# Altium schematic symbol library AnserEMT.SchLib: 26 symbols
Pins are listed as number, name and electrical type; pins without a type are passive.

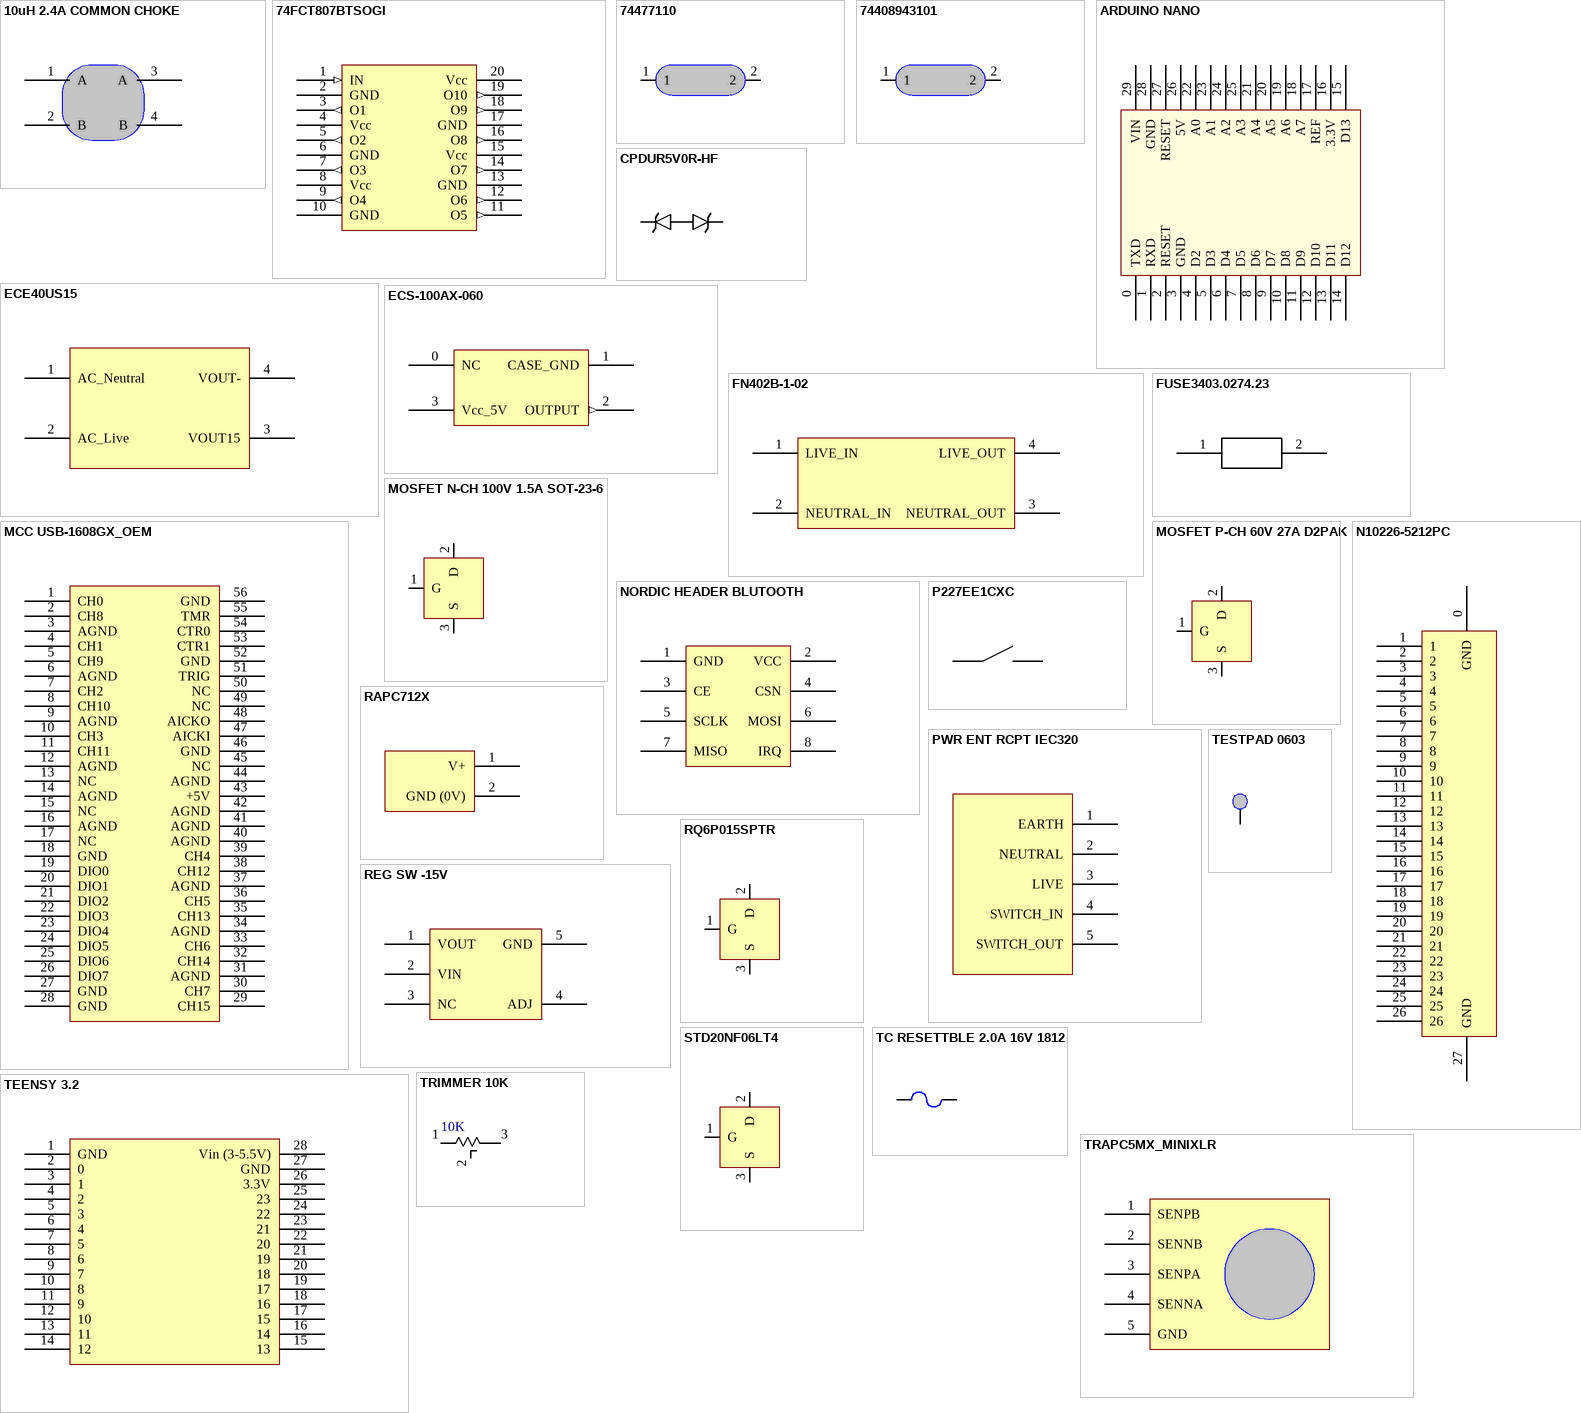
[diagram p0: symbols 10uH 2.4A COMMON CHOKE to TRIMMER 10K]

## 10uH 2.4A COMMON CHOKE
designator CH?  value 1K  Supplier 1: Digi-Key  Supplier Part Number 1: 732-2966-1-ND  Stock 1: 0  Pricing 1: 1=3.82, 10=3.702, 50=3.3436, 100=3.2242, 250=2.9854 (EUR)
CMC 10UH 2.25A 2LN 9 KOHM SMD; Manufacturer: Wurth Electronics Inc.; Manufacturer Part Number: 744282100; Filter Type: Power, Signal Line; Number of Lines: 2; Impedance @ Frequency: 9 kOhm @ 100kHz; Inductance @ Frequency: 10µH @ 100kHz; DC Resistance (DCR) (Max): 50 mOhm; Voltage Rating - DC: 80V; Published: 8-Jun-2000; LatestRevisionDate: 29-May-2009; LatestRevisionNote: IPC-7351 Footprint Added.; PackageReference: J1-0603; Publisher: Altium Limited; PackageDescription: Chip Resistor; RoHS: RoHS Compliant; Category: Filters; Packaging: Cut Tape (CT); Part Status: Active; Current Rating (Max): 2.25A; Voltage Rating - AC: -; Operating Temperature: -40°C ~ 125°C; Ratings: -; Approvals: -; Features: -; Mounting Type: Surface Mount; Size / Dimension: 0.492" L x 0.492" W (12.50mm x 12.50mm); Height (Max): 0.256" (6.50mm); Package / Case: Horizontal, 4 PC Pad; ComponentLink1URL: http://katalog.we-online.de/pbs/datasheet/744282100.pdf; ComponentLink1Description: http://katalog.we-online.de/pbs/datasheet/744282100.pdf
footprint 10uH 2.4A COMMON CHOKE
pins: 1 A, 2 B, 3 A, 4 B

## 74FCT807BTSOGI
designator U?
IC CLK BUFFER 1:10 100MHZ 20SOIC; Manufacturer: IDT, Integrated Device Technology Inc; Number of Circuits: 1; Differential - Input:Output: No/No; Input: TTL; Voltage - Supply: 4.75 V ~ 5.25 V; Published: 8-Jun-2000; LatestRevisionDate: 29-May-2009; LatestRevisionNote: IPC-7351 Footprint Added.; PackageReference: J1-0603; Publisher: Altium Limited; PackageDescription: Chip Resistor; Manufacturer Part Number: 74FCT807BTSOGI; RoHS: RoHS Compliant; Category: Integrated Circuits (ICs); Packaging: Tube; Part Status: Active; Type: Fanout Buffer (Distribution); Ratio - Input:Output: 1:10; Output: TTL; Frequency - Max: 100MHz; Operating Temperature: -40°C ~ 85°C; Mounting Type: Surface Mount; Package / Case: 20-SOIC (0.295", 7.50mm Width); Supplier Device Package: 20-SOIC; ComponentLink1URL: http://www.idt.com/document/74fct807t-datasheet; ComponentLink1Description: http://www.idt.com/document/74fct807t-datasheet; Supplier 1: Digi-Key; Supplier Part Number 1: 800-3327-5-ND; Stock 1: 281; Pricing 1: 1=3.79, 10=3.384, 25=3.0456, 100=2.7751, 250=2.5044, 500=2.24718, 1000=1.89521, 2500=1.80045, 5000=1.73276 (EUR)
footprint CLOCK DRIVER 10:1 (10 to 1 Clock Driver)
pins: 1 IN (in), 2 GND (power), 3 O1 (out), 4 Vcc (power), 5 O2 (out), 6 GND (power), 7 O3 (out), 8 Vcc (power), 9 O4 (out), 10 GND (power), 11 O5 (out), 12 O6 (out), 13 GND (power), 14 O7 (out), 15 Vcc (power), 16 O8 (out), 17 GND (power), 18 O9 (out), 19 O10 (out), 20 Vcc (power)

## 74477110
designator CH?, comment FIXED IND 10UH 5A 25 MOHM SMD  value 1K  Supplier 1: Digi-Key  Supplier Part Number 1: 732-1208-1-ND  Stock 1: 3817  Pricing 1: 1=2.82, 10=2.47, 50=2.2934, 100=2.2052, 250=2.11692 (EUR)
Manufacturer: Wurth Electronics Inc.; Manufacturer Part Number: 74477110; Material - Core: Ferrite; Inductance: 10µH; Tolerance: ±20%; Current - Saturation: 5.5A; Shielding: Shielded; DC Resistance (DCR): 25 mOhm Max; Frequency - Self Resonant: 21.5MHz; Frequency - Test: 1kHz; Published: 8-Jun-2000; LatestRevisionDate: 29-May-2009; LatestRevisionNote: IPC-7351 Footprint Added.; PackageReference: J1-0603; Publisher: Altium Limited; PackageDescription: Chip Resistor; RoHS: RoHS Compliant; Category: Inductors, Coils, Chokes; Packaging: Cut Tape (CT); Part Status: Active; Type: Wirewound; Current Rating: 5A; Q @ Freq: -; Ratings: -; Operating Temperature: -40°C ~ 125°C; Mounting Type: Surface Mount; Package / Case: Nonstandard; Supplier Device Package: -; Size / Dimension: 0.472" L x 0.472" W (12.00mm x 12.00mm); Height - Seated (Max): 0.236" (6.00mm); ComponentLink1URL: http://katalog.we-online.de/pbs/datasheet/74477110.pdf; ComponentLink1Description: http://katalog.we-online.de/pbs/datasheet/74477110.pdf
footprint FIXED IND 10UH 5A 190 MOHM SMD (FIXED IND 10UH 1A 190 MOHM SMD)
pins: 1, 2

## 74408943101
designator L?, comment FIXED IND 100UH 520MA 850 MOHM  value 1K  Supplier 1: Digi-Key  Supplier Part Number 1: 732-3038-2-ND  Stock 1: 9500  Pricing 1: 500=1.84552 (EUR)
Manufacturer: Wurth Electronics Inc.; Manufacturer Part Number: 74408943101; Type: Wirewound; Material - Core: Ferrite; Inductance: 100µH; Tolerance: ±20%; Current - Saturation: 680mA; Shielding: Shielded; DC Resistance (DCR): 850 mOhm Max; Frequency - Self Resonant: 7.8MHz; Frequency - Test: 100kHz; Published: 8-Jun-2000; LatestRevisionDate: 29-May-2009; LatestRevisionNote: IPC-7351 Footprint Added.; PackageReference: J1-0603; Publisher: Altium Limited; PackageDescription: Chip Resistor; RoHS: RoHS Compliant; Category: Inductors, Coils, Chokes; Packaging: Tape & Reel (TR); Part Status: Active; Current Rating: 520mA; Q @ Freq: -; Ratings: -; Operating Temperature: -40°C ~ 125°C; Mounting Type: Surface Mount; Package / Case: Nonstandard; Supplier Device Package: -; Size / Dimension: 0.189" L x 0.189" W (4.80mm x 4.80mm); Height - Seated (Max): 0.161" (4.10mm); ComponentLink1URL: http://katalog.we-online.de/pbs/datasheet/74408943101.pdf; ComponentLink1Description: http://katalog.we-online.de/pbs/datasheet/74408943101.pdf
footprint FIXED IND 100UH 520MA 850 MOHM
pins: 1, 2

## ARDUINO NANO
designator MCU?, comment Supplier 1: Digi-Key  Supplier Part Number 1: 1050-1001-ND  Stock 1: 453  Pricing 1: 1=20.06 (EUR)  (hidden comment: Arduino nano MCU)
ARDUINO NANO BOARD; Manufacturer Part Number: A000005; Board Type: Evaluation Platform; Core Processor: AVR; For Use With/Related Products: ATmega328; Contents: Board(s); Published: 8-Jun-2000; LatestRevisionDate: 29-May-2009; LatestRevisionNote: IPC-7351 Footprint Added.; PackageReference: J1-0603; Publisher: Altium Limited; PackageDescription: Chip Resistor; Manufacturer: Arduino; RoHS: RoHS Compliant; Category: Development Boards, Kits, Programmers; Part Status: Active; Type: MCU 8-Bit; Operating System: -; Platform: Arduino Nano; Mounting Type: Fixed; ComponentLink1URL: http://media.digikey.com/pdf/Data%20Sheets/Arduino%20PDFs/A000005.pdf; ComponentLink1Description: http://media.digikey.com/pdf/Data%20Sheets/Arduino%20PDFs/A000005.pdf
footprint Arduino Nano (arduino nano)
pins: 0 TXD, 1 RXD, 2 RESET, 3 GND, 4 D2, 5 D3, 6 D4, 7 D5, 8 D6, 9 D7, 10 D8, 11 D9, 12 D10, 13 D11, 14 D12, 15 D13, 16 3.3V, 17 REF, 18 A7, 19 A6, 20 A5, 21 A4, 22 A0, 23 A1, 24 A2, 25 A3, 26 5V, 27 RESET, 28 GND, 29 VIN

## CPDUR5V0R-HF
designator D?, comment TVS Diode 13V  value 1K  Supplier 1: Digi-Key  Supplier Part Number 1: 641-1526-1-ND  Stock 1: 6593  Pricing 1: 1=0.38, 10=0.271, 25=0.2112, 100=0.1597, 250=0.113, 500=0.09044, 1000=0.06933 (EUR)
TVS DIODE 5VWM 13VC SOD-523F; Manufacturer: Comchip Technology; Manufacturer Part Number: CPDUR5V0R-HF; Type: Zener; Voltage - Reverse Standoff (Typ): 5V (Max); Voltage - Breakdown (Min): 5.6V; Current - Peak Pulse (10/1000µs): 12A (8/20µs); Power Line Protection: No; Capacitance @ Frequency: 20pF @ 1MHz; Published: 8-Jun-2000; LatestRevisionDate: 29-May-2009; LatestRevisionNote: IPC-7351 Footprint Added.; PackageReference: J1-0603; Publisher: Altium Limited; PackageDescription: Chip Resistor; RoHS: RoHS Compliant; Category: Circuit Protection; Packaging: Cut Tape (CT); Part Status: Active; Voltage - Clamping (Max) @ Ipp: 13V; Power - Peak Pulse: -; Applications: General Purpose; Operating Temperature: -40°C ~ 150°C (TJ); Mounting Type: Surface Mount; Package / Case: SC-79, SOD-523; Supplier Device Package: 0603/SOD-523F; ComponentLink1URL: http://www.comchiptech.com/cms/UserFiles/CPDUR5V0R-HF-Rev%20B339379.pdf; ComponentLink1Description: http://www.comchiptech.com/cms/UserFiles/CPDUR5V0R-HF-Rev%20B339379.pdf
footprint CPDUR5V0R-HF (TVS Diode 13V)
pins: 1, 2

## ECE40US15
designator PWR?, comment AC-DC
AC/DC CONVERTER 15V 40W; Manufacturer: XP Power; Manufacturer Part Number: ECE40US15; Number of Outputs: 1; Voltage - Input: 85 ~ 264 VAC; Current - Output (Max): 2.67A; Power Supply Type: Enclosed; Efficiency: 84%; Line Regulation: ±0.5%; Load Regulation: ±1%; Approvals: CSA, cUL, EN, UL; Value: 1K; Published: 8-Jun-2000; LatestRevisionDate: 29-May-2009; LatestRevisionNote: IPC-7351 Footprint Added.; PackageReference: J1-0603; Publisher: Altium Limited; PackageDescription: Chip Resistor; RoHS: RoHS Compliant; Category: Power Supplies - Board Mount; Part Status: Active; Voltage - Output 1: 15V; Voltage - Output 2: -; Voltage - Output 3: -; Voltage - Output 4: -; Power (Watts): 40W; Applications: ITE (Commercial); Features: OVP, SCP; Operating Temperature: -25°C ~ 70°C; Mounting Type: Through Hole; Size / Dimension: 3.10" L x 1.50" W x 1.10" H (78.7mm x 38.1mm x 27.9mm); Weight: 0.331 lb (150.14g); ComponentLink1URL: http://www.xppower.com/Portals/0/pdfs/SF_ECE20-40.pdf; ComponentLink1Description: http://www.xppower.com/Portals/0/pdfs/SF_ECE20-40.pdf; Supplier 1: Digi-Key; Supplier Part Number 1: 1470-1140-ND; Stock 1: 20; Pricing 1: 1=55.7, 5=54.026, 10=52.354, 25=50.1268, 100=46.7848 (EUR)
footprint ECE40US15 (AC/DC 15V 40W Converter)
pins: 1 AC_Neutral, 2 AC_Live, 3 VOUT15, 4 VOUT-

## ECS-100AX-060
designator X?
OSC XO 6.000MHZ TTL PC PIN; Manufacturer: ECS Inc.; Frequency: 6MHz; Voltage - Supply: 5V; Frequency Stability: ±100ppm; Current - Supply (Max): 15mA; Value: 6Mhz; Published: 8-Jun-2000; LatestRevisionDate: 29-May-2009; LatestRevisionNote: IPC-7351 Footprint Added.; PackageReference: J1-0603; Publisher: Altium Limited; PackageDescription: Chip Resistor; Manufacturer Part Number: ECS-100AX-060; RoHS: RoHS Compliant; Category: Crystals, Oscillators, Resonators; Packaging: Bulk; Part Status: Active; Type: XO (Standard); Function: -; Output: TTL; Operating Temperature: 0°C ~ 70°C; Ratings: -; Mounting Type: Through Hole; Package / Case: 14-DIP, 4 Leads (Full Size, Metal Can); Size / Dimension: 0.821" L x 0.520" W (20.86mm x 13.20mm); Height - Seated (Max): 0.200" (5.08mm); Current - Supply (Disable) (Max): -; ComponentLink1URL: http://www.ecsxtal.com/store/pdf/ecs-100x.pdf; ComponentLink1Description: http://www.ecsxtal.com/store/pdf/ecs-100x.pdf; Supplier 1: Digi-Key; Supplier Part Number 1: X943-ND; Stock 1: 1021; Pricing 1: 1=2.21, 10=2.157, 50=2.054, 100=1.7972, 500=1.74584, 1000=1.48909, 2500=1.3864, 5000=1.33505 (EUR)
footprint ECS-100AX-060
pins: 0 NC, 1 CASE_GND (power), 2 OUTPUT (out), 3 Vcc_5V (power)

## FN402B-1-02
designator FIL?, comment Line Filter 250V
LINE FILTER 250VAC 1A TH; Manufacturer: Schaffner EMC Inc.; Manufacturer Part Number: FN402B-1-02; Filter Type: Single Phase; Configuration: Single Stage; Frequency - Operating: DC ~ 400Hz; Approvals: CSA, ENEC, UR; Inductance: 10mH; Value: 1K; Published: 8-Jun-2000; LatestRevisionDate: 29-May-2009; LatestRevisionNote: IPC-7351 Footprint Added.; PackageReference: J1-0603; Publisher: Altium Limited; PackageDescription: Chip Resistor; RoHS: RoHS Compliant; Category: Filters; Part Status: Active; Voltage - Rated DC: -; Voltage - Rated AC: 250V; Voltage - Rated AC (Phase to Ground/Neutral): -; Voltage - Rated AC (Phase to Phase): -; Current: 1A; Applications: General Purpose; Operating Temperature: -25°C ~ 100°C; Mounting Type: Through Hole; Termination Style: PC Pins; ComponentLink1URL: http://www.schaffner.com/fileadmin/media/products/pim/FN%20402.pdf; ComponentLink1Description: http://www.schaffner.com/fileadmin/media/products/pim/FN%20402.pdf; Supplier 1: Digi-Key; Supplier Part Number 1: 817-1978-ND; Stock 1: 160; Pricing 1: 1=10.2, 10=8.684, 25=6.7396, 50=6.4184, 100=6.0408, 250=5.47452, 500=5.28574, 1000=5.09697 (EUR)
footprint FN402B-1-02 (LINE FILTER 250V)
pins: 1 LIVE_IN, 2 NEUTRAL_IN, 3 NEUTRAL_OUT, 4 LIVE_OUT

## FUSE3403.0274.23
designator F?, comment value 1K  Supplier 1: Digi-Key  Supplier Part Number 1: 486-3065-1-ND  Stock 1: 2,317  Pricing 1: 1=1.59, 50=1.144, 100=1.0803, 250=1.0168, 500=0.95326 (EUR)  (hidden comment: FUSE 1A 277AC/250DC T-LAG SMD)
Manufacturer: Schurter Inc.; Manufacturer Part Number: 3403.0272.23; Fuse Type: Board Mount (Cartridge Style Excluded); Voltage Rating - AC: 277V; Voltage Rating - DC: 250V; Response Time: Slow; Breaking Capacity @ Rated Voltage: 1.5kA; Melting I²t: 1.1; Approvals: cURus, VDE; Published: 8-Jun-2000; LatestRevisionDate: 29-May-2009; LatestRevisionNote: IPC-7351 Footprint Added.; PackageReference: J1-0603; Publisher: Altium Limited; PackageDescription: Chip Resistor; RoHS: RoHS Compliant; Category: Circuit Protection; Packaging: Cut Tape (CT); Part Status: Active; Current Rating: 1A; Package / Case: 2-SMD, Square End Block; Mounting Type: Surface Mount; Operating Temperature: -55°C ~ 125°C; Color: -; Size / Dimension: 0.606" L x 0.211" W x 0.211" H (15.40mm x 5.35mm x 5.35mm); DC Cold Resistance: -; ComponentLink1URL: http://www.schurterinc.com/bundles/snceschurter/epim/_ProdPool_/newDS/en/typ_UMT-H.pdf; ComponentLink1Description: http://www.schurterinc.com/bundles/snceschurter/epim/_ProdPool_/newDS/en/typ_UMT-H.pdf
footprint FUSE3403.0272.23 (FUSE 630MA 277AC/250DC T-LAG SMD)
pins: 1, 2

## MCC USB-1608GX_OEM
designator DAQ?, comment MCC DAQ 1608GX  value 1K
MCC USB-1608GX_OEM; Published: 8-Jun-2000; LatestRevisionDate: 29-May-2009; LatestRevisionNote: IPC-7351 Footprint Added.; PackageReference: J1-0603; Publisher: Altium Limited; PackageDescription: Chip Resistor
footprint DAQ_MCC
pins: 1 CH0, 2 CH8, 3 AGND, 4 CH1, 5 CH9, 6 AGND, 7 CH2, 8 CH10, 9 AGND, 10 CH3, 11 CH11, 12 AGND, 13 NC, 14 AGND, 15 NC, 16 AGND, 17 NC, 18 GND, 19 DIO0, 20 DIO1, 21 DIO2, 22 DIO3, 23 DIO4, 24 DIO5, 25 DIO6, 26 DIO7, 27 GND, 28 GND, 29 CH15, 30 CH7, 31 AGND, 32 CH14, 33 CH6, 34 AGND, 35 CH13, 36 CH5, 37 AGND, 38 CH12, 39 CH4, 40 AGND, 41 AGND, 42 AGND, 43 +5V, 44 AGND, 45 NC, 46 GND, 47 AICKI, 48 AICKO, 49 NC, 50 NC, 51 TRIG, 52 GND, 53 CTR1, 54 CTR0, 55 TMR, 56 GND

## MOSFET N-CH 100V 1.5A SOT-23-6
designator M?, comment FET  value 1K  Supplier 1: Digi-Key  Supplier Part Number 1: ZXMN10A08E6CT-ND  Stock 1: 19787  Pricing 1: 1=0.57, 10=0.482, 100=0.3602, 500=0.28302, 1000=0.21869 (EUR)
MOSFET N-CH 100V 1.5A SOT-23-6; Manufacturer: Diodes Incorporated; Manufacturer Part Number: ZXMN10A08E6TA; FET Type: N-Channel; Current - Continuous Drain (Id) @ 25°C: 1.5A (Ta); Drive Voltage (Max Rds On,  Min Rds On): 6V, 10V; Vgs(th) (Max) @ Id: 4V @ 250µA; Gate Charge (Qg) (Max) @ Vgs: 7.7nC @ 10V; Input Capacitance (Ciss) (Max) @ Vds: 405pF @ 50V; Vgs (Max): ±20V; Power Dissipation (Max): 1.1W (Ta); Rds On (Max) @ Id, Vgs: 250 mOhm @ 3.2A, 10V; Published: 8-Jun-2000; LatestRevisionDate: 29-May-2009; LatestRevisionNote: IPC-7351 Footprint Added.; PackageReference: J1-0603; Publisher: Altium Limited; PackageDescription: Chip Resistor; RoHS: RoHS Compliant; Category: Discrete Semiconductor Products; Packaging: Cut Tape (CT); Part Status: Active; Technology: MOSFET (Metal Oxide); Drain to Source Voltage (Vdss): 100V; FET Feature: -; Operating Temperature: -55°C ~ 150°C (TJ); Mounting Type: Surface Mount; Supplier Device Package: SOT-26; Package / Case: SOT-23-6; ComponentLink1URL: http://www.diodes.com/assets/Datasheets/ZXMN10A08E6.pdf; ComponentLink1Description: http://www.diodes.com/assets/Datasheets/ZXMN10A08E6.pdf
footprint MOSFETG 100V (SOT23, 6-Leads, Body 2.90x2.85mm, Pitch 0.95mm, IPC Medium Density)
pins: 1 G, 2 D, 3 S

## MOSFET P-CH 60V 27A D2PAK
designator M?  value 1K  Supplier 1: Digi-Key  Supplier Part Number 1: FQB27P06TMCT-ND  Stock 1: 4647  Pricing 1: 1=1.58, 10=1.406, 100=1.0959 (EUR)
Manufacturer: Fairchild/ON Semiconductor; Manufacturer Part Number: FQB27P06TM; FET Type: P-Channel; Current - Continuous Drain (Id) @ 25°C: 27A (Tc); Drive Voltage (Max Rds On,  Min Rds On): 10V; Vgs(th) (Max) @ Id: 4V @ 250µA; Gate Charge (Qg) (Max) @ Vgs: 43nC @ 10V; Input Capacitance (Ciss) (Max) @ Vds: 1400pF @ 25V; Vgs (Max): ±25V; Power Dissipation (Max): 3.75W (Ta), 120W (Tc); Rds On (Max) @ Id, Vgs: 70 mOhm @ 13.5A, 10V; Published: 8-Jun-2000; LatestRevisionDate: 29-May-2009; LatestRevisionNote: IPC-7351 Footprint Added.; PackageReference: J1-0603; Publisher: Altium Limited; PackageDescription: Chip Resistor; RoHS: RoHS Compliant; Description: MOSFET P-CH 60V 27A D2PAK; Category: Discrete Semiconductor Products; Packaging: Cut Tape (CT); Part Status: Active; Technology: MOSFET (Metal Oxide); Drain to Source Voltage (Vdss): 60V; FET Feature: -; Operating Temperature: -55°C ~ 175°C (TJ); Mounting Type: Surface Mount; Supplier Device Package: D²PAK (TO-263AB); Package / Case: TO-263-3, D²Pak (2 Leads + Tab), TO-263AB; ComponentLink1URL: https://www.fairchildsemi.com/datasheets/FQ/FQB27P06.pdf; ComponentLink1Description: https://www.fairchildsemi.com/datasheets/FQ/FQB27P06.pdf
footprint DPAK228P1525X483-3N (D2-PAK, 3-Pads, Body 7.93x8.69mm (max), IPC Medium Density)
pins: 1 G, 2 D, 3 S

## N10226-5212PC
designator CONN?
CONN MINI-D 26POS R/A RECPT; Manufacturer: 3M; Connector Style: Outer Shroud Contacts; Connector Type: Receptacle; Number of Positions: 26; Flange Feature: Insert, Threaded (M2.5); Latchblocks; Published: 8-Jun-2000; LatestRevisionDate: 29-May-2009; LatestRevisionNote: IPC-7351 Footprint Added.; PackageReference: J1-0603; Publisher: Altium Limited; PackageDescription: Chip Resistor; Manufacturer Part Number: N10226-5212PC; RoHS: RoHS Compliant; Category: Connectors, Interconnects; Part Status: Active; Number of Rows: 2; Mounting Type: Panel Mount, Through Hole, Right Angle; Termination: Solder; Type: -; Features: Shielded; Contact Finish: Gold; Contact Finish Thickness: 30µin (0.76µm); ComponentLink1URL: http://multimedia.3m.com/mws/media/22325O/3mtm-mini-d-ribbonmdr-050-bm-thru-hole-ra-shielded-ts0531.pdf; ComponentLink1Description: http://multimedia.3m.com/mws/media/22325O/3mtm-mini-d-ribbonmdr-050-bm-thru-hole-ra-shielded-ts0531.pdf; Supplier 1: Digi-Key; Supplier Part Number 1: N10226-5212PC-ND; Stock 1: 782; Pricing 1: 1=7.63, 10=7.291, 25=6.6284, 50=6.2972, 100=6.1314, 250=5.4686, 500=5.13714, 1000=4.54056, 2500=4.30856 (EUR)
footprint CONN MINI-D 26POS R/A RECPT
pins: 0 GND, 1, 2, 3, 4, 5, 6, 7, 8, 9, 10, 11, 12, 13, 14, 15, 16, 17, 18, 19, 20, 21, 22, 23, 24, 25, 26, 27 GND

## NORDIC HEADER BLUTOOTH
designator BLU?
BLUTOOTH MODULE; Value: 1K; Published: 8-Jun-2000; LatestRevisionDate: 29-May-2009; LatestRevisionNote: IPC-7351 Footprint Added.; PackageReference: J1-0603; Publisher: Altium Limited; PackageDescription: Chip Resistor
footprint NORDIC BLUTOOTH HEADER
pins: 1 GND, 2 VCC, 3 CE, 4 CSN, 5 SCLK, 6 MOSI, 7 MISO, 8 IRQ

## P227EE1CXC
designator SW?
SWITCH PUSHBUTTON DPST 7A 125V; Manufacturer: E-Switch; Switch Function: Off-On; Current Rating: 7A (AC); Actuator Type: Plunger for Cap; Color - Actuator/Cap: Blue; Electrical Life: 6,000 Cycles; Value: 1K; Published: 8-Jun-2000; LatestRevisionDate: 29-May-2009; LatestRevisionNote: IPC-7351 Footprint Added.; PackageReference: J1-0603; Publisher: Altium Limited; PackageDescription: Chip Resistor; Manufacturer Part Number: P227EE1CXC; RoHS: RoHS Compliant; Category: Switches; Packaging: Bulk; Part Status: Active; Type: Standard; Circuit: DPST; Voltage Rating - AC: 125V; Voltage Rating - DC: -; Illumination Type, Color: -; Illumination Voltage (Nominal): -; Mounting Type: Through Hole, Right Angle; Termination Style: PC Pin; Ingress Protection: -; Features: -; Panel Cutout Dimensions: -; Operating Temperature: -20°C ~ 85°C; Mechanical Life: -; ComponentLink1URL: http://media.digikey.com/pdf/Data%20Sheets/E-Switch%20PDFs/P227EE1CXC_Dwg.pdf; ComponentLink1Description: http://media.digikey.com/pdf/Data%20Sheets/E-Switch%20PDFs/P227EE1CXC_Dwg.pdf; Supplier 1: Digi-Key; Supplier Part Number 1: EG1026-ND; Stock 1: 1567; Pricing 1: 1=2.23, 10=2.076, 25=1.9768, 50=1.878, 100=1.8285, 250=1.77908, 500=1.68022, 1000=1.58139, 5000=1.3343 (EUR)
footprint P227EE1CXC (DPST SWITCH 7A)
pins: 1, 2

## PWR ENT RCPT IEC320
designator CONN?, comment PWR ENT RCPT  value 1K  RoHS: RoHS Compliant  Supplier 1: Mouser  Supplier Part Number 1: 693-CMF3113212  Stock 1: 50  Pricing 1: 9.04
PWR ENT RCPT IEC320-C14 PNL SLDR; Manufacturer: Qualtek; Manufacturer Part Number: 703W-00/52; Connector Type: Receptacle, Male Blades; Current - IEC: 10A; Voltage - IEC: 250VAC; Current - UL: 15A; Filter Type: Unfiltered - Commercial; Fuse: No; Number of Positions: 3; Panel Thickness: 0.120" (3.00mm); Approvals: CSA, UL, VDE; Published: 8-Jun-2000; LatestRevisionDate: 29-May-2009; LatestRevisionNote: IPC-7351 Footprint Added.; PackageReference: J1-0603; Publisher: Altium Limited; PackageDescription: Chip Resistor; Category: Connectors, Interconnects; Packaging: Bulk; Part Status: Active; Connector Style: IEC 320-C14; Voltage - UL: 250VAC; Mounting Type: Panel Mount, Flange; Through Hole, Right Angle; Termination: Solder; Switch Features: -; Features: Terminating Cover; Fuse Holder, Drawer: -; Panel Cutout Dimensions: Rectangular - 31.30mm x 23.30mm; Material Flammability Rating: -; Ingress Protection: -; ComponentLink1URL: http://www.qualtekusa.com/Catalog/AC_Receptacles/pdfs/703w0052.pdf; ComponentLink1Description: http://www.qualtekusa.com/Catalog/AC_Receptacles/pdfs/703w0052.pdf
footprint PWR ENT RCPT IEC320
pins: 1 EARTH, 2 NEUTRAL, 3 LIVE, 4 SWITCH_IN, 5 SWITCH_OUT

## RAPC712X
designator CONN?, comment CONN PWR JACK 2.5X5.5MM SOLDER
Manufacturer: Switchcraft Inc.; Manufacturer Part Number: RAPC712X; Gender: Male; Industry Recognized Mating Diameter: 2.50mm ID (0.098"), 5.50mm OD (0.217"); Actual Diameter: 0.098" (2.50mm ID), 0.248" (6.30mm OD); Number of Positions/Contacts: 2 Conductors, 3 Contacts; Internal Switch(s): Single Switch, Normally Closed; Shielding: Unshielded; Current Rating: 5A; Includes: 1 pc - 1 Connector; Body Color: Black; Value: 1K; Published: 8-Jun-2000; LatestRevisionDate: 29-May-2009; LatestRevisionNote: IPC-7351 Footprint Added.; PackageReference: J1-0603; Publisher: Altium Limited; PackageDescription: Chip Resistor; RoHS: RoHS Compliant; Category: Connectors, Interconnects; Packaging: Bulk; Part Status: Active; Connector Type: Jack; Mounting Type: Through Hole, Right Angle; Mounting Feature: -; Termination: Solder Eyelet(s); Features: -; Insulation Color: -; Voltage - Rated: -; Mating Length/Depth: -; Contact Material - Plating: Silver; Body Material: -; Operating Temperature: -; Housing Material: Thermoplastic; Contact Material: Brass; Thread Size: -; Material Flammability Rating: -; Ingress Protection: -; ComponentLink1URL: http://www.switchcraft.com/Drawings/rapc712x_cd.pdf; ComponentLink1Description: http://www.switchcraft.com/Drawings/rapc712x_cd.pdf; Supplier 1: Digi-Key; Supplier Part Number 1: SC237-ND; Stock 1: 19155; Pricing 1: 1=0.85, 10=0.786, 25=0.7416, 50=0.719, 100=0.6852, 250=0.674, 500=0.6608 (EUR)
footprint CONN PWR JACK 2.5X5.5MM SOLDER
pins: 1 V+, 2 GND (0V)

## REG SW -15V
designator PWR?, comment value 1K  Supplier 1: Digi-Key  Supplier Part Number 1: 296-20501-ND  Stock 1: 2032  Pricing 1: 1=13.37, 5=13.266, 10=13.163, 25=12.9608, 50=12.5558, 100=11.3406, 250=11.13816, 500=10.93564 (EUR)  (hidden comment: REG SW -15 TO -3.3V 1.5A HORZ TH)
Manufacturer: Texas Instruments; Manufacturer Part Number: PTN78000AAH; Number of Outputs: 1; Voltage - Input (Min): 7V; Voltage - Input (Max): 28.7V; Voltage - Output 1: -15 ~ -3 V; Efficiency: 84%; Published: 8-Jun-2000; LatestRevisionDate: 29-May-2009; LatestRevisionNote: IPC-7351 Footprint Added.; PackageReference: J1-0603; Publisher: Altium Limited; PackageDescription: Chip Resistor; RoHS: RoHS Compliant; Category: Power Supplies - Board Mount; Packaging: Tray; Part Status: Active; Type: Non-Isolated PoL Module; Voltage - Output 2: -; Voltage - Output 3: -; Current - Output (Max): 1.5A; Power (Watts) - Manufacture Series: -; Voltage - Isolation: -; Applications: ITE (Commercial); Features: -; Mounting Type: Through Hole; Package / Case: 5-DIP Module; Size / Dimension: 0.75" L x 0.50" W x 0.34" H (19.1mm x 12.7mm x 8.6mm); Operating Temperature: -40°C ~ 85°C; ComponentLink1URL: http://www.ti.com/lit/ds/symlink/ptn78000a.pdf; ComponentLink1Description: http://www.ti.com/lit/ds/symlink/ptn78000a.pdf
footprint REG SW -15V
pins: 1 VOUT, 2 VIN, 3 NC, 4 ADJ, 5 GND

## RQ6P015SPTR
designator M?, comment MOSFET P-CH 100V 1.5A TSMT  value 1K  Supplier 1: Digi-Key  Supplier Part Number 1: RQ6P015SPCT-ND  Stock 1: 2129  Pricing 1: 1=0.65, 10=0.548, 25=0.4788, 100=0.4105, 250=0.35568, 500=0.30096, 1000=0.23257 (EUR)
Manufacturer: Rohm Semiconductor; Manufacturer Part Number: RQ6P015SPTR; FET Type: P-Channel; Current - Continuous Drain (Id) @ 25°C: 1.5A (Ta); Drive Voltage (Max Rds On,  Min Rds On): 4V, 10V; Vgs(th) (Max) @ Id: 2.5V @ 1mA; Gate Charge (Qg) (Max) @ Vgs: 322nC @ 10V; Input Capacitance (Ciss) (Max) @ Vds: 950pF @ 25V; Vgs (Max): ±20V; Power Dissipation (Max): 600mW (Ta); Rds On (Max) @ Id, Vgs: 470 mOhm @ 1.5A, 10V; Published: 8-Jun-2000; LatestRevisionDate: 29-May-2009; LatestRevisionNote: IPC-7351 Footprint Added.; PackageReference: J1-0603; Publisher: Altium Limited; PackageDescription: Chip Resistor; RoHS: RoHS Compliant; Category: Discrete Semiconductor Products; Packaging: Cut Tape (CT); Part Status: Active; Technology: MOSFET (Metal Oxide); Drain to Source Voltage (Vdss): 100V; FET Feature: -; Operating Temperature: 150°C (TJ); Mounting Type: Surface Mount; Supplier Device Package: TSMT6 (SC-95); Package / Case: SOT-23-6 Thin, TSOT-23-6; ComponentLink1URL: http://rohmfs.rohm.com/en/products/databook/datasheet/discrete/transistor/mosfet/rq6p015sp.pdf; ComponentLink1Description: http://rohmfs.rohm.com/en/products/databook/datasheet/discrete/transistor/mosfet/rq6p015sp.pdf
footprint MOSFETG 100V (SOT23, 6-Leads, Body 2.90x2.85mm, Pitch 0.95mm, IPC Medium Density)
pins: 1 G, 2 D, 3 S

## STD20NF06LT4
designator MOS?, comment MOSFET N-CH 60V 24A DPAK  (value not drawn)
Manufacturer: STMicroelectronics; Manufacturer Part Number: STD20NF06LT4; FET Type: N-Channel; Current - Continuous Drain (Id) @ 25°C: 24A (Tc); Drive Voltage (Max Rds On,  Min Rds On): 5V, 10V; Vgs(th) (Max) @ Id: 2.5V @ 250µA; Gate Charge (Qg) (Max) @ Vgs: 13nC @ 10V; Input Capacitance (Ciss) (Max) @ Vds: 660pF @ 25V; Vgs (Max): ±18V; Power Dissipation (Max): 60W (Tc); Rds On (Max) @ Id, Vgs: 40 mOhm @ 12A, 10V; Value: 1K; Published: 8-Jun-2000; LatestRevisionDate: 29-May-2009; LatestRevisionNote: IPC-7351 Footprint Added.; PackageReference: J1-0603; Publisher: Altium Limited; PackageDescription: Chip Resistor; RoHS: RoHS Compliant; Category: Discrete Semiconductor Products; Packaging: Cut Tape (CT); Part Status: Active; Technology: MOSFET (Metal Oxide); Drain to Source Voltage (Vdss): 60V; FET Feature: -; Operating Temperature: -55°C ~ 175°C (TJ); Mounting Type: Surface Mount; Supplier Device Package: D-Pak; Package / Case: TO-252-3, DPak (2 Leads + Tab), SC-63; ComponentLink1URL: http://www.st.com/content/ccc/resource/technical/document/datasheet/a6/4e/36/6e/fb/e1/44/e8/CD00003407.pdf/files/CD00003407.pdf/jcr:content/translations/en.CD00003407.pdf; ComponentLink1Description: http://www.st.com/content/ccc/resource/technical/document/datasheet/a6/4e/36/6e/fb/e1/44/e8/CD00003407.pdf/files/CD00003407.pdf/jcr:content/translations/en.CD00003407.pdf; Supplier 1: Digi-Key; Supplier Part Number 1: 497-5888-1-ND; Stock 1: 8590; Pricing 1: 1=0.96, 10=0.858, 100=0.6686, 500=0.55238, 1000=0.43609 (EUR)
footprint DPAK228P970X238-3N (D-PAK, 3-Pads, Body 6.20x6.72mm (max), IPC Medium Density)
pins: 1 G, 2 D, 3 S

## TC RESETTBLE 2.0A 16V 1812
designator F?, comment PTC RESETTBLE 2.0A 16V 1812  value 1K  Supplier 1: Digi-Key  Supplier Part Number 1: 507-2074-1-ND  Stock 1: 3479  Pricing 1: 1=0.24, 5=0.23, 10=0.221, 50=0.1972, 100=0.1835, 250=0.16312, 500=0.13594 (EUR)
Manufacturer: Bel Fuse Inc.; Manufacturer Part Number: 0ZCG0200AF2B; Type: Polymeric; Current - Max: 100A; Current - Hold (Ih) (Max): 2A; Current - Trip (It): 3.5A; Time to Trip: 5s; Resistance - Initial (Ri) (Min): 20 mOhm; Resistance - Post Trip (R1) (Max): 85 mOhm; Approvals: cURus, TUV; Published: 8-Jun-2000; LatestRevisionDate: 29-May-2009; LatestRevisionNote: IPC-7351 Footprint Added.; PackageReference: J1-0603; Publisher: Altium Limited; PackageDescription: Chip Resistor; RoHS: RoHS Compliant; Description: PTC RESETTBLE 2.0A 16V 1812; Category: Circuit Protection; Packaging: Cut Tape (CT); Part Status: Active; Voltage - Max: 16V; Resistance - 25°C (Typ): -; Operating Temperature: -40°C ~ 85°C; Ratings: -; Mounting Type: Surface Mount; Package / Case: 1812 (4532 Metric), Concave; Size / Dimension: 0.179" L x 0.128" W (4.55mm x 3.24mm); Height - Seated (Max): -; Thickness (Max): 0.051" (1.30mm); Lead Spacing: -; ComponentLink1URL: http://www.belfuse.com/pdfs/0ZCG.pdf; ComponentLink1Description: http://www.belfuse.com/pdfs/0ZCG.pdf
footprint TC RESETTBLE 2.0A 16V 1812
pins: 1, 2

## TEENSY 3.2
designator MCU?
MCU; Published: 8-Jun-2000; LatestRevisionDate: 29-May-2009; LatestRevisionNote: IPC-7351 Footprint Added.; PackageReference: J1-0603; Publisher: Altium Limited; PackageDescription: Chip Resistor
footprint TEENSY 3.1 (Arduino Nano)
pins: 1 GND, 2 0, 3 1, 4 2, 5 3, 6 4, 7 5, 8 6, 9 7, 10 8, 11 9, 12 10, 13 11, 14 12, 15 13, 16 14, 17 15, 18 16, 19 17, 20 18, 21 19, 22 20, 23 21, 24 22, 25 23, 26 3.3V, 27 GND, 28 Vin (3-5.5V)

## TESTPAD 0603
designator TP?
0603 PROBE PAD; Manufacturer: TE Connectivity AMP Connectors; Manufacturer Part Number: RCU-0C; Material - Insulation: No Insulation; Published: 8-Jun-2000; LatestRevisionDate: 29-May-2009; LatestRevisionNote: IPC-7351 Footprint Added.; PackageReference: J1-0603; Publisher: Altium Limited; PackageDescription: Chip Resistor; RoHS: RoHS Compliant; Category: Test and Measurement; Packaging: Cut Tape (CT); Part Status: Active; Type: PC Test Point; Mounting Type: Surface Mount; Color: Natural; Size / Dimension: 0.063" x 0.031" x 0.045" (1.60mm x 0.80mm x 1.15mm); Plating: -; Material - Body: -; ComponentLink1URL: http://www.te.com/commerce/DocumentDelivery/DDEController?Action=srchrtrv&DocNm=1773266&DocType=DS&DocLang=English; ComponentLink1Description: http://www.te.com/commerce/DocumentDelivery/DDEController?Action=srchrtrv&DocNm=1773266&DocType=DS&DocLang=English; Supplier 1: Digi-Key; Supplier Part Number 1: A106145CT-ND; Stock 1: 152921; Pricing 1: 1=0.21, 10=0.192, 25=0.164, 50=0.1434, 100=0.1331, 250=0.1178, 500=0.11266, 1000=0.09218 (EUR)
footprint 0603 PROBE PAD
pins: 0

## TRAPC5MX_MINIXLR
designator XLR?
CONN RCPT 5POS R/A MALE T/H; Manufacturer: Switchcraft Inc.; Connector Type: Receptacle, Male Pins; Number of Positions: 5; Current Rating: 5A; Voltage - Rated: 125VAC; Published: 8-Jun-2000; LatestRevisionDate: 29-May-2009; LatestRevisionNote: IPC-7351 Footprint Added.; PackageReference: J1-0603; Publisher: Altium Limited; PackageDescription: Chip Resistor; Manufacturer Part Number: TRAPC5MX; RoHS: RoHS Compliant; Category: Connectors, Interconnects; Packaging: Bulk; Part Status: Active; Shell Size - Insert: Mini XLR; Shell Size, MIL: -; Mounting Type: Through Hole, Right Angle; Termination: Solder; Fastening Type: Threaded; Orientation: Keyed; Ingress Protection: -; Shell Material, Finish: Thermoplastic; Contact Finish: Tin; Features: Board Guide; Contact Finish Thickness: -; Operating Temperature: -55°C ~ 85°C; ComponentLink1URL: http://www.switchcraft.com/Drawings/TRAPC_X-TRASM_X_SERIES_CD.PDF; ComponentLink1Description: http://www.switchcraft.com/Drawings/TRAPC_X-TRASM_X_SERIES_CD.PDF; Supplier 1: Digi-Key; Supplier Part Number 1: SC2056-ND; Stock 1: 291; Pricing 1: 1=6.25, 10=5.041, 25=4.602, 50=4.3826, 100=4.1636, 250=3.80444 (EUR)
footprint MiniXLR_TRAPC5MX_5POS
pins: 1 SENPB (power), 2 SENNB, 3 SENPA, 4 SENNA, 5 GND

## TRIMMER 10K
designator VR?  value 10K
TRIMMER 10K OHM 0.5W TH; Manufacturer: TE Connectivity Passive Product; Manufacturer Part Number: 1-1623849-0; Power (Watts): 0.5W, 1/2W; Tolerance: ±10%; Temperature Coefficient: ±100ppm/°C; Number of Turns: 25; Adjustment Type: Top Adjustment; Resistive Material: Cermet; Published: 8-Jun-2000; LatestRevisionDate: 29-May-2009; LatestRevisionNote: IPC-7351 Footprint Added.; PackageReference: J1-0603; Publisher: Altium Limited; PackageDescription: Chip Resistor; RoHS: RoHS Compliant; Category: Potentiometers, Variable Resistors; Packaging: Bulk; Part Status: Active; Resistance (Ohms): 10k; Mounting Type: Through Hole; Termination Style: PC Pins; Size / Dimension: Rectangular - 0.374" x 0.185" Face x 0.394" H (9.50mm x 4.70mm x 10.00mm); ComponentLink1URL: http://www.te.com/commerce/DocumentDelivery/DDEController?Action=srchrtrv&DocNm=1623849&DocType=Customer+Drawing&DocLang=English; ComponentLink1Description: http://www.te.com/commerce/DocumentDelivery/DDEController?Action=srchrtrv&DocNm=1623849&DocType=Customer+Drawing&DocLang=English; Supplier 1: Digi-Key; Supplier Part Number 1: A105870-ND; Stock 1: 5809; Pricing 1: 1=0.89, 10=0.786, 25=0.7076, 50=0.6816, 100=0.6554, 250=0.61608, 500=0.5243, 1000=0.48499, 5000=0.39848 (EUR)
simulation model RESISTOR (Resistor)
signal-integrity model Res
footprint TRIMMER 10K
pins: 1, 2, 3